# Altium schematic symbol library SR17A1815F89N.SchLib: 1 symbol
Pins are listed as number, name and electrical type; pins without a type are passive.

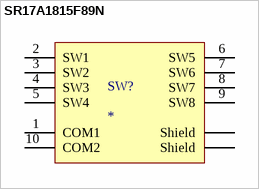
[diagram p0: symbol SR17A1815F89N]

## SR17A1815F89N
designator SW?
pins: 1 COM1, 2 SW1, 3 SW2, 4 SW3, 5 SW4, 6 SW5, 7 SW6, 8 SW7, 9 SW8, 10 COM2, MH1 Shield, MH2 Shield